# Altium footprint library Optoelectronics.PcbLib: 52 footprints (part 4 of 4)
Each footprint in its own frame and in the unit in brackets; x right, y up, seen from the top. Pads: shape width x height; smd on the part's side, far side on the other; paste and mask are expansions set on the pad; w line width, h text height; cw(c..) or ccw(c..) is an arc to the next point about the centre after c.
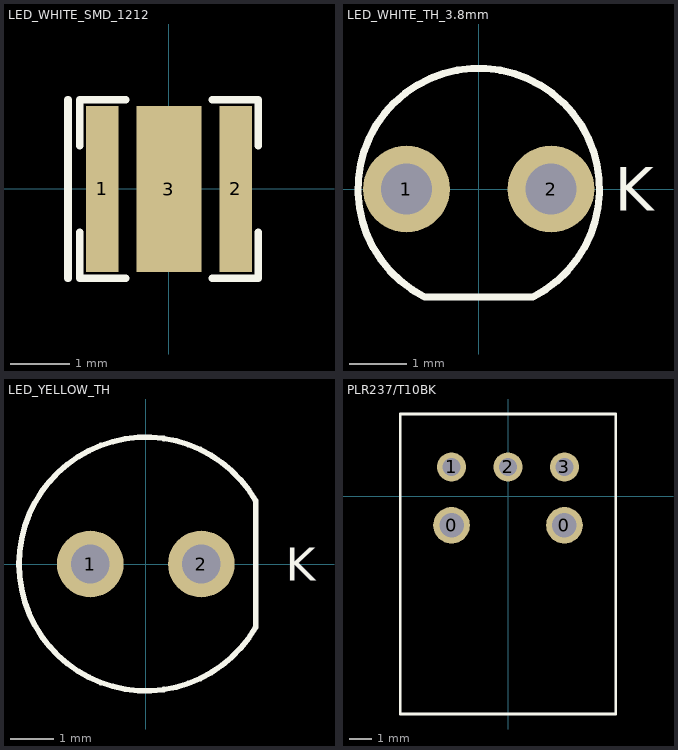
[diagram p3: the footprints below, top view; thin cyan lines are the x and y axes]

## LED_WHITE_SMD_1212 [mm] "/20230228/J-A.Sepulveda"
pads (3):
  rect 0.55x2.8 smd: 1(-1.125,0) 2(1.125,0)
  rect 1.1x2.8 smd: 3(0,0)
Top Overlay:
  lines w0.127: -1.7,-1.5 -1.7,1.5 ; -1.5,-0.725 -1.5,-1.5 -0.725,-1.5 ; -1.5,0.725 -1.5,1.5 -0.725,1.5 ; 0.725,-1.5 1.5,-1.5 1.5,-0.725 ; 0.725,1.5 1.5,1.5 1.5,0.725
3D body "GW_CS8PM1_PM_20220531_geometry.STEP": height 2.32, standoff 0, extent -1.5,-1.5 1.5,1.5

## LED_WHITE_TH_3.8mm [mil] "/20230811/J-A.Sepulveda"
pads (2):
  round 60 hole 35: 1(-50,0) 2(50,0)
Top Overlay:
  lines w5: -37.47,-74.67 cw(c0,0) 37.47,-74.67 -37.47,-74.67
  text "K" at 94,-15 h30
3D body: height 212.6, standoff 90.55, extent -60.57,-60.91 61.03,60.92
3D body: height 157.48, standoff 0, extent -74.8,-74.67 74.81,74.68

## LED_YELLOW_TH [mil] "/20220830/F-A.Ocpina"
pads (2):
  round 60 hole 35: 1(-50,0) 2(50,0)
Top Overlay:
  lines w5: 98.88,-57.09 cw(c0,0) 98.88,57.09 98.88,-57.09
  text "K" at 126,-15 h30
3D body "825495mm_package_3D.stp": height 343.21, standoff -1007.37, extent -114.3,-114.16 98.3,114.17

## PLR237/T10BK [mm] "FIBER OPTIC TRANSMITTER IR"
pads (5):
  round 1.65 hole 1.1: 0(-2.54,-1.315) 0(2.54,-1.315)
  round 1.308 hole 0.8: 1(-2.54,1.315) 2(0,1.315) 3(2.54,1.315)
Top Overlay:
  lines w0.127: -4.85,-9.805 -4.85,3.695 4.85,3.695 4.85,-9.805 -4.85,-9.805
3D body "PLR135-T10.stp": height 10.4, standoff -5, extent -4.85,-9.795 4.85,3.705